# Altium footprint library Harting Connectors.PcbLib: 1 footprints
Each footprint in its own frame and in the unit in brackets; x right, y up, seen from the top. Pads: shape width x height; smd on the part's side, far side on the other; paste and mask are expansions set on the pad; w line width, h text height; cw(c..) or ccw(c..) is an arc to the next point about the centre after c.
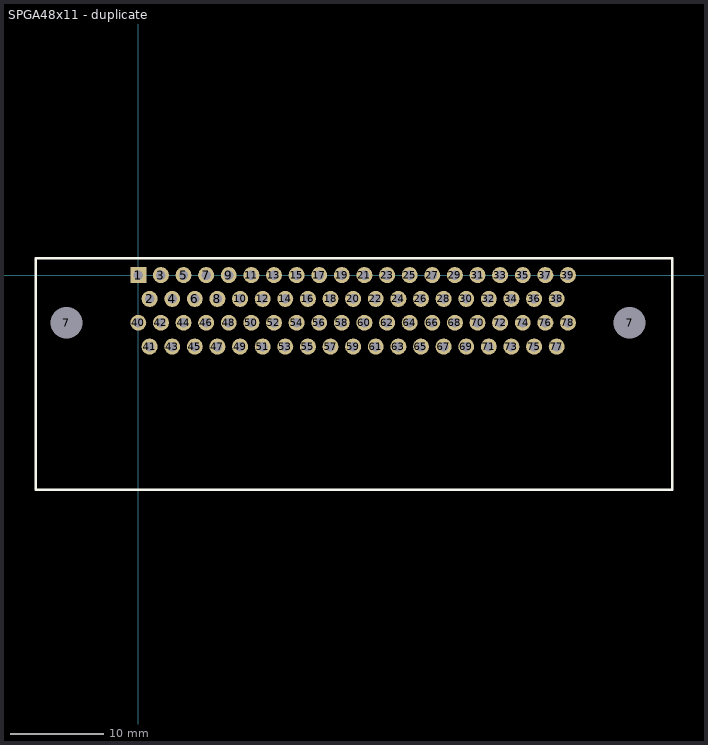
[diagram p0: the footprint, top view; thin cyan lines are the x and y axes]

## SPGA48x11 - duplicate [mm]
pads (80):
  rect 1.7x1.7 hole 1: 1(0,0)
  round 1.7 hole 1: 2(1.205,-2.54) 3(2.41,0) 4(3.615,-2.54) 5(4.82,0) 6(6.025,-2.54) 7(7.23,0) 8(8.435,-2.54) 9(9.64,0) 10(10.845,-2.54) 11(12.05,0) 12(13.255,-2.54) 13(14.46,0) 14(15.665,-2.54) 15(16.87,0) 16(18.075,-2.54) 17(19.28,0) 18(20.485,-2.54) 19(21.69,0) 20(22.895,-2.54) 21(24.1,0) 22(25.305,-2.54) 23(26.51,0) 24(27.715,-2.54) 25(28.92,0) 26(30.125,-2.54) 27(31.33,0) 28(32.535,-2.54) 29(33.74,0) 30(34.945,-2.54) 31(36.15,0) 32(37.355,-2.54) 33(38.56,0) 34(39.765,-2.54) 35(40.97,0) 36(42.175,-2.54) 37(43.38,0) 38(44.585,-2.54) 39(45.79,0) 40(0,-5.08) 41(1.205,-7.62) 42(2.41,-5.08) 43(3.615,-7.62) 44(4.82,-5.08) 45(6.025,-7.62) 46(7.23,-5.08) 47(8.435,-7.62) 48(9.64,-5.08) 49(10.845,-7.62) 50(12.05,-5.08) 51(13.255,-7.62) 52(14.46,-5.08) 53(15.665,-7.62) 54(16.87,-5.08) 55(18.075,-7.62) 56(19.28,-5.08) 57(20.485,-7.62) 58(21.69,-5.08) 59(22.895,-7.62) 60(24.1,-5.08) 61(25.305,-7.62) 62(26.51,-5.08) 63(27.715,-7.62) 64(28.92,-5.08) 65(30.125,-7.62) 66(31.33,-5.08) 67(32.535,-7.62) 68(33.74,-5.08) 69(34.945,-7.62) 70(36.15,-5.08) 71(37.355,-7.62) 72(38.56,-5.08) 73(39.765,-7.62) 74(40.97,-5.08) 75(42.175,-7.62) 76(43.38,-5.08) 77(44.585,-7.62) 78(45.79,-5.08)
  round 1.524 hole 3.4: 7(-7.665,-5.08) 7(52.35,-5.08)
Top Overlay:
  lines w0.254: -10.922,-22.86 -10.922,1.778 56.896,1.778 56.896,-22.86 -10.922,-22.86
3D body "0956552X613_100222214MOD000A.STP": height 16.87, standoff -2.88, extent -10.713,-22.676 56.687,1.524